# Altium schematic symbol library 3x1.SchLib: 1 symbol
Pins are listed as number, name and electrical type; pins without a type are passive.

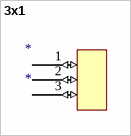
[diagram p0: symbol 3x1]

## 3x1
designator *
footprint 3x1
pins: 1 (io), 2 (io), 3 (io)